# Altium schematic symbol library VES101M1ETR-0607.Schlib: 1 symbol
Pins are listed as number, name and electrical type; pins without a type are passive.

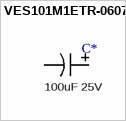
[diagram p0: symbol VES101M1ETR-0607]

## VES101M1ETR-0607
designator C*  value 100uF 25V  (hidden comment: *)
100uF ±20% 35V SMD,6.3x7.7mm Aluminum Electrolytic Capacitors - SMD RoHS; ComponentLink1Description: LCSC - Lelon VES101M1ETR-0607; ComponentLink1URL: https://lcsc.com/product-detail/Aluminum-Electrolytic-Capacitors-SMD_Lelon-VES101M1ETR-0607_C176675.html; LCSC Part #: C176675; JLCPCB Part Type: Extended
footprint SMD,6.3x7.7mm
pins: 1, 2